# Altium footprint library 45C21C89-16FD-4743-99D5-BE7C796D208F_FP-SOD323-CA-MFG.PcbLib: 1 footprints
Each footprint in its own frame and in the unit in brackets; x right, y up, seen from the top. Pads: shape width x height; smd on the part's side, far side on the other; paste and mask are expansions set on the pad; w line width, h text height; cw(c..) or ccw(c..) is an arc to the next point about the centre after c.
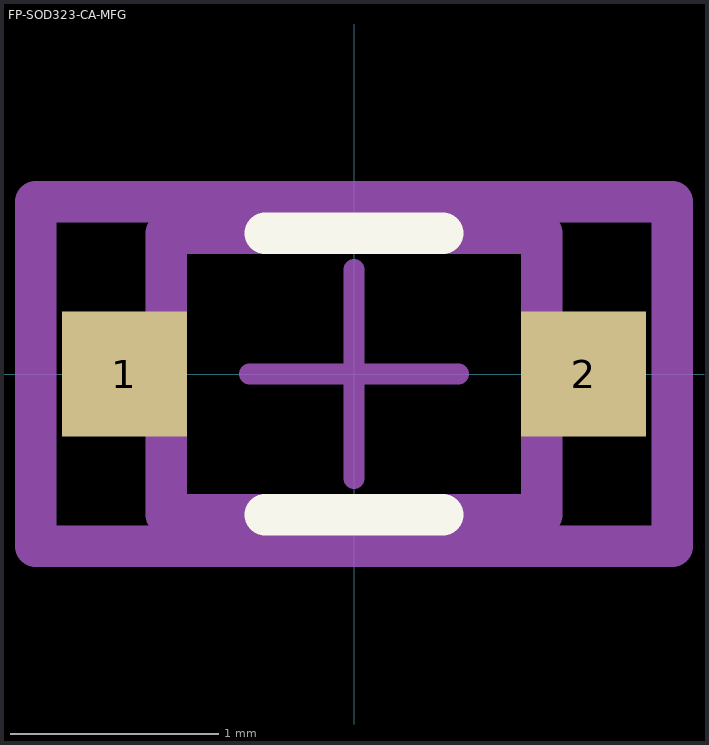
[diagram p0: the footprint, top view; thin cyan lines are the x and y axes]

## FP-SOD323-CA-MFG [mm]
pads (2):
  rect 0.6x0.6 smd paste-1000 mask+0: 1(-1.1,0) 2(1.1,0)
Top Overlay:
  lines w0.2: -0.425,-0.675 0.425,-0.675 ; -0.425,0.675 0.425,0.675
Top Paste:
  rectangle: 0.85,-0.25 1.35,0.25
  rectangle: -1.35,-0.25 -0.85,0.25
Top Assembly:
  lines w0.2: -1.525,-0.825 -1.525,0.825 1.525,0.825 1.525,-0.825 -1.525,-0.825
  text ".Designator" at 0,-0.001 h1
Top 3D Body:
  lines w0.2: -0.9,-0.675 -0.9,0.675 0.9,0.675 0.9,-0.675 -0.9,-0.675
Top Courtyard:
  lines w0.2: -1.525,-0.825 -1.525,0.825 1.525,0.825 1.525,-0.825 -1.525,-0.825
Top Component Center:
  lines w0.1: -0.5,0 0.5,0 ; 0,-0.5 0,0.5
3D body "Diode_Nexperia_PESD5V0S1BA_115_eec.STEP": height 0.25, standoff 0, extent -1.525,-0.825 1.525,0.825